# Altium schematic symbol library mpsm.SCHLIB: 43 symbols
Pins are listed as number, name and electrical type; pins without a type are passive.

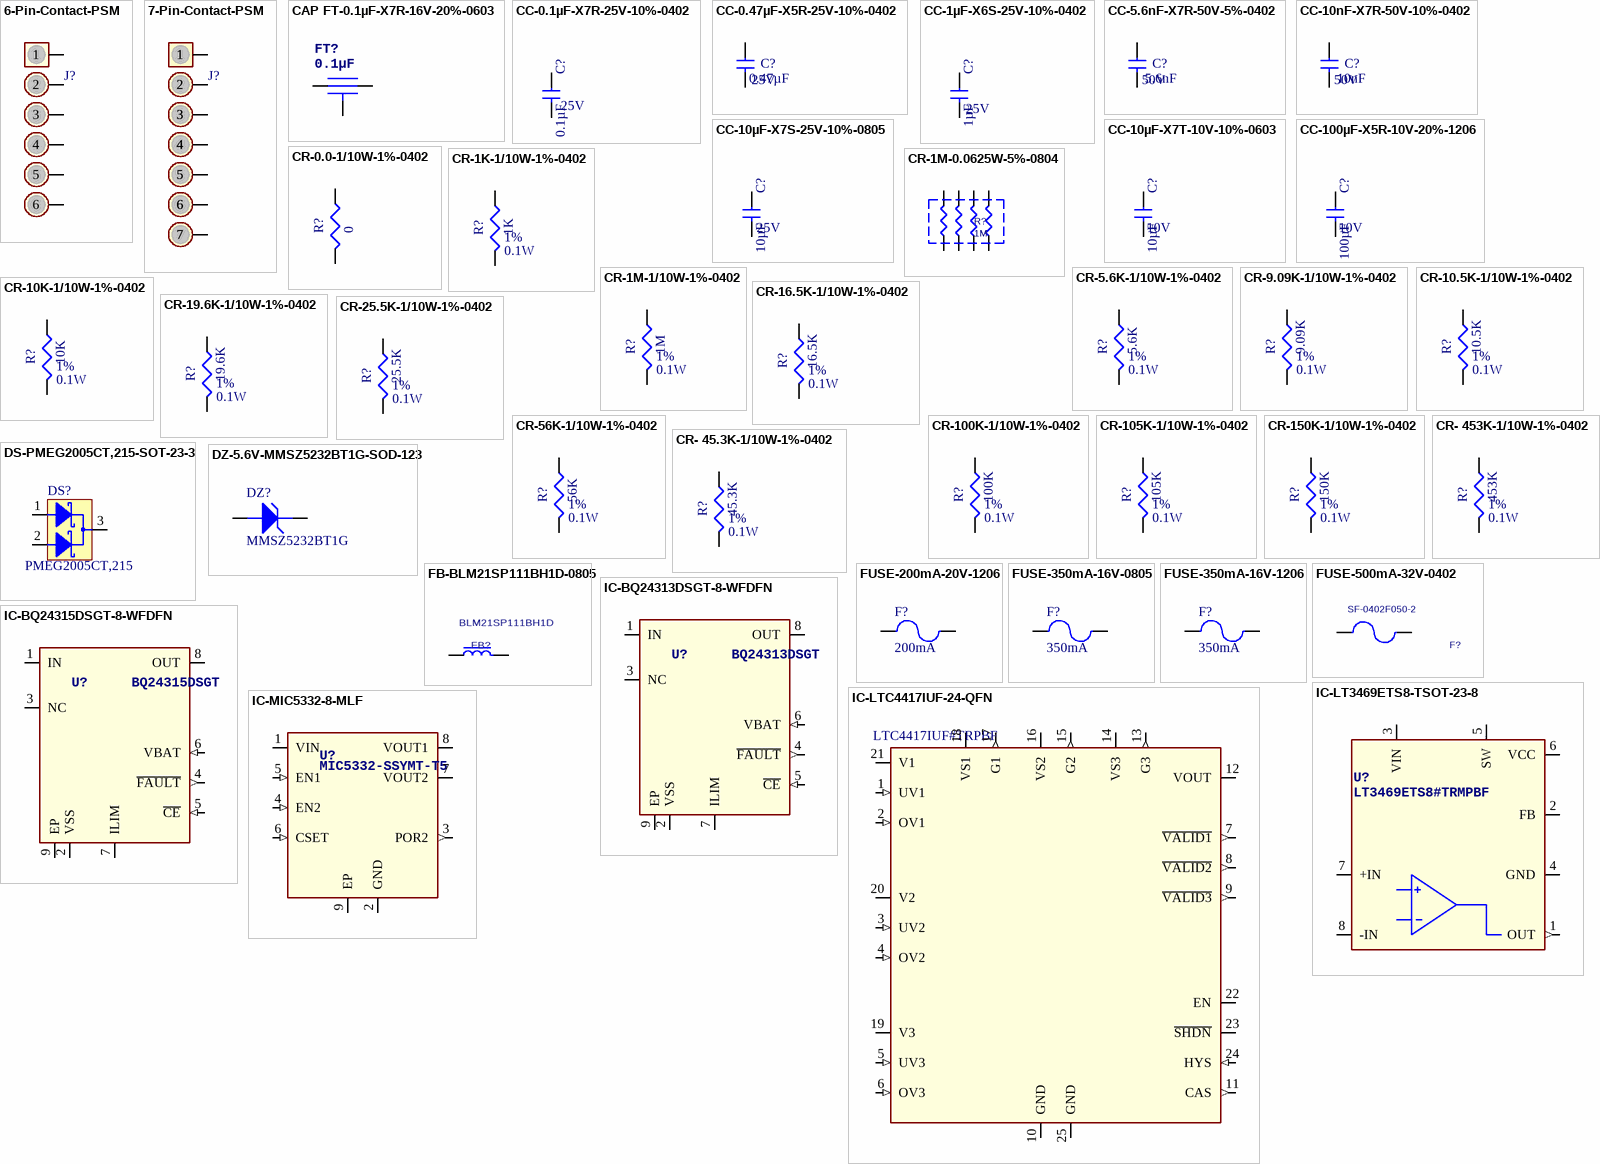
[diagram p0: symbols 6-Pin-Contact-PSM to IC-MIC5332-8-MLF]

## 6-Pin-Contact-PSM
designator J?, comment 6 Contacts  (value not drawn)  (no BOM)
Manufacturer: TE Connectivity Aerospace, Defense and Marine; Manufacturer Part Number: 205089-1; Part Description: CONN PIN 20-24AWG GOLD CRIMP; Case/Package: 1mm-TH; RoHS: Y; Supplier 1: Digikey; Supplier Part Number 1: A2160-ND
footprint 1X06M
pins: 1, 2, 3, 4, 5, 6

## 7-Pin-Contact-PSM
designator J?, comment 7 Contacts  (value not drawn)  (no BOM)
Manufacturer: TE Connectivity Aerospace, Defense and Marine; Manufacturer Part Number: 205089-1; Part Description: CONN PIN 20-24AWG GOLD CRIMP; Case/Package: 1mm-TH; RoHS: Y; Supplier 1: Digikey; Supplier Part Number 1: A2160-ND
footprint 1X07M
pins: 1, 1, 2, 2, 3, 3, 4, 4, 5, 5, 6, 6, 7, 7

## CAP FT-0.1µF-X7R-16V-20%-0603
designator FT?, comment 0.1µF
DESC: 0.1µF Feed Through Capacitor 16V 2A 30mOhm 0603 (1608 Metric), 3 PC Pad; MFG: Murata Electronics; MFG_PN: NFM18PC104R1C3D
footprint CF-0603 - 3PC-PAD (3 Terminal CAP)
pins: 1, 2, GND

## CC-0.1µF-X7R-25V-10%-0402
designator C?, comment 0.1µF  Voltage: 25V
DESC: 0.1µF ±10% 25V Ceramic Capacitor X7R 0402 (1005 Metric); MFG: Murata Electronics; MFG_PN: GRM155R71E104KE14D; Tolerance: 10%
footprint CC-0402
pins: 1, 2

## CC-0.47µF-X5R-25V-10%-0402
designator C?, comment 0.47µF  Voltage: 25V
Tolerance: ±10%; DESC: 0.47µF ±10% 25V Ceramic Capacitor X5R 0402 (1005 Metric); MFG: Murata Electronics; MFG_PN: GRT155R61E474KE01D
footprint CC-0402 (Chip Capacitor; Body 1.1 x 0.5 mm (LxW typ))
pins: 1, 2

## CC-1µF-X6S-25V-10%-0402
designator C?, comment 1µF  Voltage: 25V
DESC: 1µF ±10% 25V Ceramic Capacitor X6S 0402 (1005 Metric); MFG: Murata Electronics; MFG_PN: GRT155C81E105KE13D; Tolerance: 10%
footprint CC-0402
pins: 1, 2

## CC-5.6nF-X7R-50V-5%-0402
designator C?, comment 5.6nF  Voltage: 50V
Tolerance: ±10%; DESC: 5600pF ±5% 50V Ceramic Capacitor X7R 0402 (1005 Metric); MFG: Yageo; MFG_PN: CC0402JRX7R9BB562
footprint CC-0402
pins: 1, 2

## CC-10nF-X7R-50V-10%-0402
designator C?, comment 10nF  Voltage: 50V
Tolerance: ±10%; DESC: 10000pF ±10% 50V Ceramic Capacitor X7R 0402 (1005 Metric); MFG: Murata Electronics; MFG_PN: GRM155R71H103KA88D
footprint CC-0402
pins: 1, 2

## CC-10µF-X7S-25V-10%-0805
designator C?, comment 10µF  Voltage: 25V
DESC: 10µF ±10% 25V Ceramic Capacitor X7S 0805 (2012 Metric); MFG: TDK Corporation; MFG_PN: CGA4J1X7S1E106K125AE; Tolerance: 10%
footprint CC-0805
pins: 1, 2

## CC-10µF-X7T-10V-10%-0603
designator C?, comment 10µF  Voltage: 10V
DESC: 10µF ±10% 10V Ceramic Capacitor X7T 0603 (1608 Metric); MFG: Murata Electronics; MFG_PN: GRM188D71A106KA73D; Tolerance: 10%
footprint CC-0603
pins: 1, 2

## CC-100µF-X5R-10V-20%-1206
designator C?, comment 100µF  Voltage: 10V
DESC: 100µF ±20% 10V Ceramic Capacitor X5R 1206 (3216 Metric); MFG: TDK Corporation; MFG_PN: C3216X5R1A107M160AC; Tolerance: 20%
footprint CC-1206
pins: 1, 2

## CR-0.0-1/10W-1%-0402
designator R?, comment 0
DESC: 0 Ohms Jumper 0.1W, 1/10W Chip Resistor 0402 (1005 Metric) Automotive AEC-Q200 Thick Film; MFG: Panasonic Electronic Components; MFG_PN: ERJ-2GE0R00X; Tolerance: 1%; Power: 0.1W
footprint CR-0402
pins: 1, 2

## CR-1K-1/10W-1%-0402
designator R?, comment 1K  Power: 0.1W  Tolerance: 1%
DESC: 1 kOhms ±1% 0.1W, 1/10W Chip Resistor 0402 (1005 Metric) Automotive AEC-Q200 Thick Film; MFG: Panasonic Electronic Components; MFG_PN: ERJ-2RKF1001X
footprint CR-0402
pins: 1, 2

## CR-1M-0.0625W-5%-0804
designator R?, comment 1M
0804 - RES_ARRAY; MFG_PN: EXB-28V105JX; MFG: Panasonic Electronic Components; DESC: 1M Ohm ±5% 62.5mW Power Per Element Isolated  Resistor Network/Array ±200ppm/°C 0804, Convex, Long Side Terminals; Power: 0.0625W; Tolerance: 5%
pins: 1, 2, 3, 4, 5, 6, 7, 8

## CR-1M-1/10W-1%-0402
designator R?, comment 1M  Power: 0.1W  Tolerance: 1%
DESC: 1 MOhms ±1% 0.1W, 1/10W Chip Resistor 0402 (1005 Metric) Automotive AEC-Q200 Thick Film; MFG: Panasonic Electronic Components; MFG_PN: ERJ-2RKF1004X
footprint CR-0402
pins: 1, 2

## CR-5.6K-1/10W-1%-0402
designator R?, comment 5.6K  Power: 0.1W  Tolerance: 1%
DESC: 5.6 kOhms ±1% 0.1W, 1/10W Chip Resistor 0402 (1005 Metric) Automotive AEC-Q200 Thick Film; MFG: Panasonic Electronic Components; MFG_PN: ERJ-2RKF5601X
footprint CR-0402
pins: 1, 2

## CR-9.09K-1/10W-1%-0402
designator R?, comment 9.09K  Power: 0.1W  Tolerance: 1%
DESC: 9.09 kOhms ±1% 0.1W, 1/10W Chip Resistor 0402 (1005 Metric) Automotive AEC-Q200 Thick Film; MFG: Panasonic Electronic Components; MFG_PN: ERJ-2RKF9091X
footprint CR-0402
pins: 1, 2

## CR-10.5K-1/10W-1%-0402
designator R?, comment 10.5K  Power: 0.1W  Tolerance: 1%
DESC: 10.5 kOhms ±1% 0.1W, 1/10W Chip Resistor 0402 (1005 Metric) Automotive AEC-Q200 Thick Film; MFG: Panasonic Electronic Components; MFG_PN: ERJ-2RKF1052X
footprint CR-0402
pins: 1, 2

## CR-10K-1/10W-1%-0402
designator R?, comment 10K  Power: 0.1W  Tolerance: 1%
DESC: 10 kOhms ±1% 0.1W, 1/10W Chip Resistor 0402 (1005 Metric) Automotive AEC-Q200 Thick Film; MFG: Panasonic Electronic Components; MFG_PN: ERJ-2RKF1002X
footprint CR-0402
pins: 1, 2

## CR-16.5K-1/10W-1%-0402
designator R?, comment 16.5K  Power: 0.1W  Tolerance: 1%
DESC: 16.5 kOhms ±1% 0.1W, 1/10W Chip Resistor 0402 (1005 Metric) Automotive AEC-Q200 Thick Film; MFG: Panasonic Electronic Components; MFG_PN: ERJ-2RKF1652X
footprint CR-0402
pins: 1, 2

## CR-19.6K-1/10W-1%-0402
designator R?, comment 19.6K  Power: 0.1W  Tolerance: 1%
DESC: 19.6 kOhms ±1% 0.1W, 1/10W Chip Resistor 0402 (1005 Metric) Automotive AEC-Q200 Thick Film; MFG: Panasonic Electronic Components; MFG_PN: ERJ-2RKF1962X
footprint CR-0402
pins: 1, 2

## CR-25.5K-1/10W-1%-0402
designator R?, comment 25.5K  Power: 0.1W  Tolerance: 1%
DESC: 25.5 kOhms ±1% 0.1W, 1/10W Chip Resistor 0402 (1005 Metric) Automotive AEC-Q200 Thick Film; MFG: Panasonic Electronic Components; MFG_PN: ERJ-2RKF2552X
footprint CR-0402
pins: 1, 2

## CR-56K-1/10W-1%-0402
designator R?, comment 56K  Power: 0.1W  Tolerance: 1%
DESC: 56 kOhms ±1% 0.1W, 1/10W Chip Resistor 0402 (1005 Metric) Automotive AEC-Q200 Thick Film; MFG: Panasonic Electronic Components; MFG_PN: ERJ-2RKF5602X
footprint CR-0402
pins: 1, 2

## CR-100K-1/10W-1%-0402
designator R?, comment 100K  Power: 0.1W  Tolerance: 1%
DESC: 100 kOhms ±1% 0.1W, 1/10W Chip Resistor 0402 (1005 Metric) Automotive AEC-Q200 Thick Film; MFG: Panasonic Electronic Components; MFG_PN: ERJ-2RKF1003X
footprint CR-0402
pins: 1, 2

## CR-105K-1/10W-1%-0402
designator R?, comment 105K  Power: 0.1W  Tolerance: 1%
DESC: 105 kOhms ±1% 0.1W, 1/10W Chip Resistor 0402 (1005 Metric) Automotive AEC-Q200 Thick Film; MFG: Panasonic Electronic Components; MFG_PN: ERJ-2RKF1053X
footprint CR-0402
pins: 1, 2

## CR-150K-1/10W-1%-0402
designator R?, comment 150K  Power: 0.1W  Tolerance: 1%
DESC: 150 kOhms ±1% 0.1W, 1/10W Chip Resistor 0402 (1005 Metric) Automotive AEC-Q200 Thick Film; MFG: Panasonic Electronic Components; MFG_PN: ERJ-2RKF1503X
footprint CR-0402
pins: 1, 2

## CR- 45.3K-1/10W-1%-0402
designator R?, comment 45.3K  Power: 0.1W  Tolerance: 1%
DESC: 45.3 kOhms ±1% 0.1W, 1/10W Chip Resistor 0402 (1005 Metric) Automotive AEC-Q200 Thick Film; MFG: Panasonic Electronic Components; MFG_PN: ERJ-2RKF4532X
footprint CR-0402
pins: 1, 2

## CR- 453K-1/10W-1%-0402
designator R?, comment 453K  Power: 0.1W  Tolerance: 1%
DESC: 453 kOhms ±1% 0.1W, 1/10W Chip Resistor 0402 (1005 Metric) Automotive AEC-Q200 Thick Film; MFG: Panasonic Electronic Components; MFG_PN: ERJ-2RKF4533X
footprint CR-0402
pins: 1, 2

## DS-PMEG2005CT,215-SOT-23-3
designator DS?, comment PMEG2005CT,215
MFG: Nexperia USA Inc.; DESC: Diode Array 1 Pair Common Cathode Schottky 20V 500mA Surface Mount TO-236-3, SC-59, SOT-23-3; MFG_PN: PMEG2005CT,215
footprint SOT-23-3
pins: 1 A1, 2 A2, 3 C

## DZ-5.6V-MMSZ5232BT1G-SOD-123
designator DZ?, comment MMSZ5232BT1G
MFG: ON Semiconductor; DESC: Zener Diode 5.6V 500mW ±5% Surface Mount SOD-123; MFG_PN: MMSZ5232BT1G
footprint SOD-123 (SOD-123; 2 Leads; Body 2.7 x 1.6 mm, (LxW))
pins: A, K

## FB-BLM21SP111BH1D-0805
designator FB?, comment BLM21SP111BH1D
DESC: 110 Ohms @ 100MHz 1 Power Line Ferrite Bead 0805 (2012 Metric) 5A; MFG: Murata Electronics; MFG_PN: BLM21SP111BH1D
footprint FB-0805 (FB0805)
pins: 1, 2

## FUSE-200mA-20V-1206
designator F?, comment 200mA
DESC: Polymeric PTC Resettable Fuse 30V 200mA Ih Surface Mount 1206 (3216 Metric), Concave; MFG: Bel Fuse Inc.; MFG_PN: 0ZCJ0020FF2E
footprint CF-1206 (FUSE  1206 package 3.2 x 1.6mm  (3216))
pins: 1, 2

## FUSE-350mA-16V-0805
designator F?, comment 350mA
DESC: Polymeric PTC Resettable Fuse 16V 350mA Ih Surface Mount 0805 (2012 Metric), Concave; MFG: Bourns Inc.; MFG_PN: MF-PSHT035KX-2
footprint CF- 0805 (FUSE  0805 package 2.15x 1.35mm)
pins: 1, 2

## FUSE-350mA-16V-1206
designator F?, comment 350mA
DESC: Polymeric PTC Resettable Fuse 16V 350mA Ih Surface Mount 1206 (3216 Metric), Concave; MFG: Littelfuse Inc.; MFG_PN: 1206L035/16YR
footprint CF-1206 (FUSE  1206 package 3.2 x 1.6mm  (3216))
pins: 1, 2

## FUSE-500mA-32V-0402
designator F?, comment MFG_PN: SF-0402F050-2  (hidden comment: 500mA)
DESC: FUSE BOARD MNT 500MA 24VDC 0402; MFG: BOURNS
footprint CF-0402 (0.040" L x 0.020" W x 0.019" H (1.00mm x 0.50mm x 0.48mm))
pins: 1 POS, 2 NEG

## IC-BQ24313DSGT-8-WFDFN
designator U?, comment BQ24313DSGT
DESC: Battery Battery Protection IC Lithium-Ion 8-WSON (2x2); MFG: Texas Instruments; MFG_PN: BQ24313DSGT
footprint 8-WFDFN_2x2 (8-WFDFN)
pins: 1 IN (power), 2 VSS (power), 3 NC (power), 4 ~{FAULT} (out), 5 ~{CE} (in), 6 VBAT (in), 7 ILIM (io), 8 OUT (power), 9 EP

## IC-BQ24315DSGT-8-WFDFN
designator U?, comment BQ24315DSGT
DESC: Battery Battery Protection IC Lithium-Ion 8-WSON (2x2); MFG: Texas Instruments; MFG_PN: BQ24315DSGT
footprint 8-WFDFN_2x2 (8-WFDFN)
pins: 1 IN (power), 2 VSS (power), 3 NC (power), 4 ~{FAULT} (out), 5 ~{CE} (in), 6 VBAT (in), 7 ILIM (io), 8 OUT (power), 9 EP

## IC-LT3469ETS8-TSOT-23-8
designator U?, comment LT3469ETS8#TRMPBF
DESC: Transconductance IC Piezo Speakers, Microactuators TSOT-23-8; MFG: Analog Devices Inc.; MFG_PN: LT3469ETS8#TRMPBF
footprint SOT-23-8 (TSSOP, 8-Leads, Body 2.90x1.63mm, Pitch 0.62mm, IPC High Density)
pins: 1 OUT (out), 2 FB, 3 VIN (power), 4 GND (power), 5 SW, 6 VCC, 7 +IN, 8 -IN

## IC-LTC4417IUF-24-QFN
designator U?, comment LTC4417IUF#TRPBF
DESC: OR Controller Source Selector Switch P-Channel 3:1 24-QFN (4x4); MFG: Analog Devices Inc.; MFG_PN: LTC4417IUF#TRPBF
footprint QFN-24_2x2 (QFN, 24-Leads, Body 4.00x4.00mm, Pitch 0.50mm, Thermal Pad 2.45x2.45mm, IPC High Density)
pins: 1 UV1 (in), 2 OV1 (in), 3 UV2 (in), 4 OV2 (in), 5 UV3 (in), 6 OV3 (in), 7 ~{VALID1} (out), 8 ~{VALID2} (out), 9 ~{VALID3} (out), 10 GND (power), 11 CAS (out), 12 VOUT (power), 13 G3 (out), 14 VS3 (power), 15 G2 (out), 16 VS2 (power), 17 G1 (out), 18 VS1 (power), 19 V3 (power), 20 V2 (power), 21 V1 (power), 22 EN, 23 ~{SHDN}, 24 HYS (in), 25 GND (power)

## IC-MIC5332-8-MLF
designator U?, comment MIC5332-SSYMT-T5
DESC: Linear Voltage Regulator IC  2 Output  300mA, 300mA 8-MLF® (2x2); MFG: Microchip Technology; MF_PN: MIC5332-SSYMT-T5
footprint MLF-8_2x2
pins: 1 VIN (power), 2 GND (power), 3 POR2 (out), 4 EN2 (in), 5 EN1 (in), 6 CSET (in), 7 VOUT2 (power), 8 VOUT1 (power), 9 EP (power)

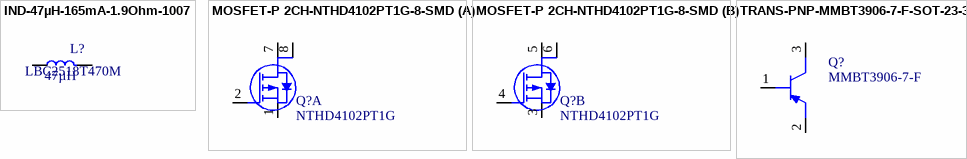
[diagram p1: symbols IND-47µH-165mA-1.9Ohm-1007 to TRANS-PNP-MMBT3906-7-F-SOT-23-3]

## IND-47µH-165mA-1.9Ohm-1007
designator L?, comment LBC2518T470M  Inductance: 47µH
DESC: 47µH Unshielded Wirewound Inductor 165mA 1.9Ohm 1007 (2518 Metric); MFG: Taiyo Yuden; MFG_PN: LBC2518T470M
footprint IND-1007 (Chip Inductor, 2-Leads, Body 2.50x1.80mm, IPC High Density)
pins: 1, 2

## MOSFET-P 2CH-NTHD4102PT1G-8-SMD
designator Q?, comment NTHD4102PT1G
MFG: ON Semiconductor; DESC: Mosfet Array 2 P-Channel (Dual) 20V 2.9A 1.1W Surface Mount ChipFET™; MFG_PN: NTHD4102PT1G
footprint 1206-8_8-SMD (1206-8 ChipFET)
part A pins: 1 S1, 2 G1, 7 D1, 8 D1
part B pins: 3 S2, 4 G2, 5 D2, 6 D2

## TRANS-PNP-MMBT3906-7-F-SOT-23-3
designator Q?, comment MMBT3906-7-F
DESC: Bipolar (BJT) Transistor PNP 40V 200mA 250MHz 300mW Surface Mount SOT-23-3; MFG: *; MFG_PN: MMBT3906-7-F
footprint SOT-23-3
pins: 1 B, 2 E, 3 C